# EAGLE library part YICLMAX483 (library Traficon)
MAX 3483 3.3V powered, 10Mbps ans Slew-Rate-Limited True RS485 transceiver
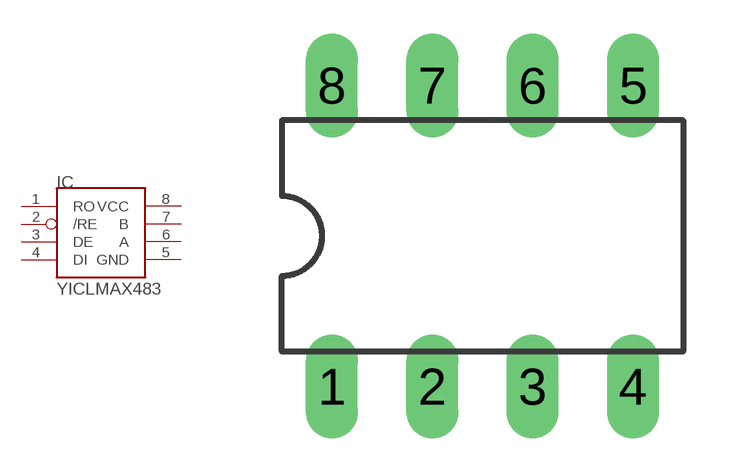
[diagram p26: symbol with the pads of DIL08; footprint DIL08]

Designator prefix IC

## YICLMAX483  [DIL08]
1  RO  out
2  /RE  in
3  DE  in
4  DI  in
5  GND  pas
6  A
7  B
8  VCC  pas

## Footprint DIL08 (pad centres in mm)
Dual In Line Package
drill 0.813 long: 1 -3.81,-3.81; 2 -1.27,-3.81; 3 1.27,-3.81; 4 3.81,-3.81; 5 3.81,3.81; 6 1.27,3.81; 7 -1.27,3.81; 8 -3.81,3.81